# Altium schematic symbol library STC智能车.SchLib: 14 symbols
Pins are listed as number, name and electrical type; pins without a type are passive.

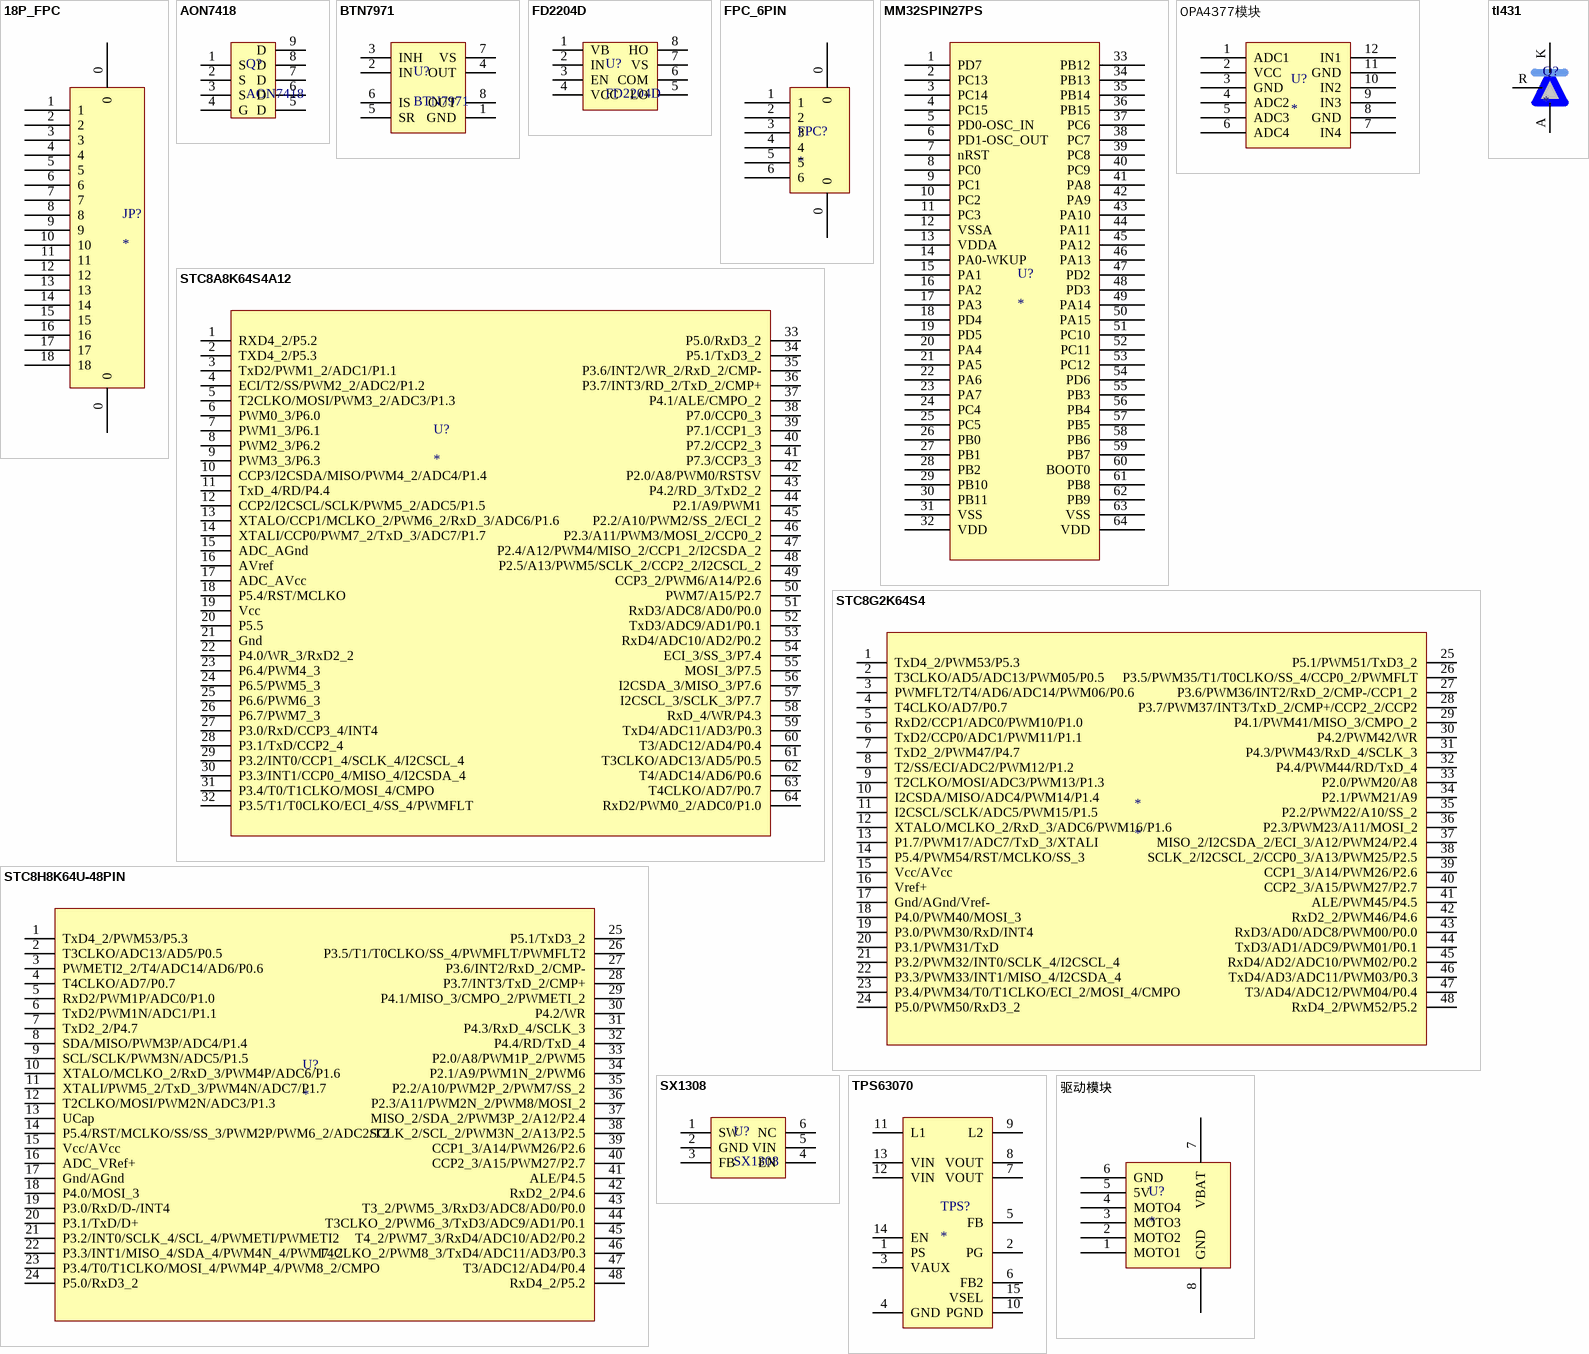
[diagram p0: symbols 18P_FPC to 驱动模块]

## 18P_FPC
designator JP?
footprint FPC0.5 2H-WS-18P (长：13.2mm，宽：5.2mm，高：2mm  淘宝ID:黄晶宝石   店铺网址:https://shop463601444.taobao.com)
pins: 0, 0, 1, 2, 3, 4, 5, 6, 7, 8, 9, 10, 11, 12, 13, 14, 15, 16, 17, 18

## AON7418
designator Q?
pins: 1 S, 2 S, 3 S, 4 G, 5 D, 6 D, 7 D, 8 D, 9 D

## BTN7971
designator U?
pins: 1 GND, 2 IN, 3 INH, 4 OUT, 5 SR, 6 IS, 7 VS, 8 OUT

## FD2204D
designator U?
pins: 1 VB, 2 IN, 3 EN, 4 VCC, 5 LO, 6 COM, 7 VS, 8 HO

## FPC_6PIN
designator FPC?
footprint FPC0.5 2H-WS-6P (长：7.2mm，宽：5.2mm，高：2mm 淘宝ID:黄晶宝石   店铺网址:https://shop463601444.taobao.com)
pins: 0, 0, 1, 2, 3, 4, 5, 6

## MM32SPIN27PS
designator U?
footprint LQFP64 10x10_M (64脚，体宽10x10mm，脚距0.5mm         淘宝ID:黄晶宝石)
pins: 1 PD7, 2 PC13, 3 PC14, 4 PC15, 5 PD0-OSC_IN, 6 PD1-OSC_OUT, 7 nRST, 8 PC0, 9 PC1, 10 PC2, 11 PC3, 12 VSSA, 13 VDDA, 14 PA0-WKUP, 15 PA1, 16 PA2, 17 PA3, 18 PD4, 19 PD5, 20 PA4, 21 PA5, 22 PA6, 23 PA7, 24 PC4, 25 PC5, 26 PB0, 27 PB1, 28 PB2, 29 PB10, 30 PB11, 31 VSS, 32 VDD, 33 PB12, 34 PB13, 35 PB14, 36 PB15, 37 PC6, 38 PC7, 39 PC8, 40 PC9, 41 PA8, 42 PA9, 43 PA10, 44 PA11, 45 PA12, 46 PA13, 47 PD2, 48 PD3, 49 PA14, 50 PA15, 51 PC10, 52 PC11, 53 PC12, 54 PD6, 55 PB3, 56 PB4, 57 PB5, 58 PB6, 59 PB7, 60 BOOT0, 61 PB8, 62 PB9, 63 VSS, 64 VDD

## OPA4377模块
designator U?
pins: 1 ADC1, 2 VCC, 3 GND, 4 ADC2, 5 ADC3, 6 ADC4, 7 IN4, 8 GND, 9 IN3, 10 IN2, 11 GND, 12 IN1

## STC8A8K64S4A12
designator U?
footprint LQFP64 10x10_M (64脚，体宽10x10mm，脚距0.5mm         淘宝ID:黄晶宝石)
pins: 1 RXD4_2/P5.2, 2 TXD4_2/P5.3, 3 TxD2/PWM1_2/ADC1/P1.1, 4 ECI/T2/SS/PWM2_2/ADC2/P1.2, 5 T2CLKO/MOSI/PWM3_2/ADC3/P1.3, 6 PWM0_3/P6.0, 7 PWM1_3/P6.1, 8 PWM2_3/P6.2, 9 PWM3_3/P6.3, 10 CCP3/I2CSDA/MISO/PWM4_2/ADC4/P1.4, 11 TxD_4/RD/P4.4, 12 CCP2/I2CSCL/SCLK/PWM5_2/ADC5/P1.5, 13 XTALO/CCP1/MCLKO_2/PWM6_2/RxD_3/ADC6/P1.6, 14 XTALI/CCP0/PWM7_2/TxD_3/ADC7/P1.7, 15 ADC_AGnd, 16 AVref, 17 ADC_AVcc, 18 P5.4/RST/MCLKO, 19 Vcc, 20 P5.5, 21 Gnd, 22 P4.0/WR_3/RxD2_2, 23 P6.4/PWM4_3, 24 P6.5/PWM5_3, 25 P6.6/PWM6_3, 26 P6.7/PWM7_3, 27 P3.0/RxD/CCP3_4/INT4, 28 P3.1/TxD/CCP2_4, 29 P3.2/INT0/CCP1_4/SCLK_4/I2CSCL_4, 30 P3.3/INT1/CCP0_4/MISO_4/I2CSDA_4, 31 P3.4/T0/T1CLKO/MOSI_4/CMPO, 32 P3.5/T1/T0CLKO/ECI_4/SS_4/PWMFLT, 33 P5.0/RxD3_2, 34 P5.1/TxD3_2, 35 P3.6/INT2/WR_2/RxD_2/CMP-, 36 P3.7/INT3/RD_2/TxD_2/CMP+, 37 P4.1/ALE/CMPO_2, 38 P7.0/CCP0_3, 39  P7.1/CCP1_3, 40 P7.2/CCP2_3, 41 P7.3/CCP3_3, 42 P2.0/A8/PWM0/RSTSV, 43  P4.2/RD_3/TxD2_2, 44  P2.1/A9/PWM1, 45 P2.2/A10/PWM2/SS_2/ECI_2, 46 P2.3/A11/PWM3/MOSI_2/CCP0_2, 47 P2.4/A12/PWM4/MISO_2/CCP1_2/I2CSDA_2, 48 P2.5/A13/PWM5/SCLK_2/CCP2_2/I2CSCL_2, 49 CCP3_2/PWM6/A14/P2.6, 50 PWM7/A15/P2.7, 51 RxD3/ADC8/AD0/P0.0, 52 TxD3/ADC9/AD1/P0.1, 53 RxD4/ADC10/AD2/P0.2, 54 ECI_3/SS_3/P7.4, 55 MOSI_3/P7.5, 56 I2CSDA_3/MISO_3/P7.6, 57 I2CSCL_3/SCLK_3/P7.7, 58 RxD_4/WR/P4.3, 59 TxD4/ADC11/AD3/P0.3, 60 T3/ADC12/AD4/P0.4, 61 T3CLKO/ADC13/AD5/P0.5, 62 T4/ADC14/AD6/P0.6, 63 T4CLKO/AD7/P0.7, 64 RxD2/PWM0_2/ADC0/P1.0

## STC8G2K64S4
designator *
pins: 1 TxD4_2/PWM53/P5.3, 2 T3CLKO/AD5/ADC13/PWM05/P0.5, 3 PWMFLT2/T4/AD6/ADC14/PWM06/P0.6, 4 T4CLKO/AD7/P0.7, 5 RxD2/CCP1/ADC0/PWM10/P1.0, 6 TxD2/CCP0/ADC1/PWM11/P1.1, 7 TxD2_2/PWM47/P4.7, 8 T2/SS/ECI/ADC2/PWM12/P1.2, 9 T2CLKO/MOSI/ADC3/PWM13/P1.3, 10 I2CSDA/MISO/ADC4/PWM14/P1.4, 11 I2CSCL/SCLK/ADC5/PWM15/P1.5 , 12 XTALO/MCLKO_2/RxD_3/ADC6/PWM16/P1.6, 13 P1.7/PWM17/ADC7/TxD_3/XTALI, 14 P5.4/PWM54/RST/MCLKO/SS_3, 15 Vcc/AVcc, 16 Vref+, 17 Gnd/AGnd/Vref-, 18 P4.0/PWM40/MOSI_3, 19 P3.0/PWM30/RxD/INT4, 20 P3.1/PWM31/TxD, 21 P3.2/PWM32/INT0/SCLK_4/I2CSCL_4, 22 P3.3/PWM33/INT1/MISO_4/I2CSDA_4, 23 P3.4/PWM34/T0/T1CLKO/ECI_2/MOSI_4/CMPO, 24 P5.0/PWM50/RxD3_2, 25 P5.1/PWM51/TxD3_2, 26 P3.5/PWM35/T1/T0CLKO/SS_4/CCP0_2/PWMFLT, 27 P3.6/PWM36/INT2/RxD_2/CMP-/CCP1_2, 28  P3.7/PWM37/INT3/TxD_2/CMP+/CCP2_2/CCP2, 29  P4.1/PWM41/MISO_3/CMPO_2, 30 P4.2/PWM42/WR, 31 P4.3/PWM43/RxD_4/SCLK_3, 32 P4.4/PWM44/RD/TxD_4, 33 P2.0/PWM20/A8, 34 P2.1/PWM21/A9, 35 P2.2/PWM22/A10/SS_2, 36  P2.3/PWM23/A11/MOSI_2, 37 MISO_2/I2CSDA_2/ECI_3/A12/PWM24/P2.4, 38 SCLK_2/I2CSCL_2/CCP0_3/A13/PWM25/P2.5, 39 CCP1_3/A14/PWM26/P2.6, 40 CCP2_3/A15/PWM27/P2.7, 41 ALE/PWM45/P4.5, 42 RxD2_2/PWM46/P4.6, 43 RxD3/AD0/ADC8/PWM00/P0.0, 44 TxD3/AD1/ADC9/PWM01/P0.1, 45 RxD4/AD2/ADC10/PWM02/P0.2, 46 TxD4/AD3/ADC11/PWM03/P0.3, 47 T3/AD4/ADC12/PWM04/P0.4, 48 RxD4_2/PWM52/P5.2

## STC8H8K64U-48PIN
designator U?
footprint LQFP48
footprint QFN48
pins: 1 TxD4_2/PWM53/P5.3, 2 T3CLKO/ADC13/AD5/P0.5, 3 PWMETI2_2/T4/ADC14/AD6/P0.6, 4 T4CLKO/AD7/P0.7, 5 RxD2/PWM1P/ADC0/P1.0, 6 TxD2/PWM1N/ADC1/P1.1, 7 TxD2_2/P4.7, 8 SDA/MISO/PWM3P/ADC4/P1.4, 9 SCL/SCLK/PWM3N/ADC5/P1.5, 10 XTALO/MCLKO_2/RxD_3/PWM4P/ADC6/P1.6, 11 XTALI/PWM5_2/TxD_3/PWM4N/ADC7/P1.7, 12 T2CLKO/MOSI/PWM2N/ADC3/P1.3, 13 UCap, 14 P5.4/RST/MCLKO/SS/SS_3/PWM2P/PWM6_2/ADC2/T2, 15 Vcc/AVcc, 16 ADC_VRef+, 17 Gnd/AGnd, 18 P4.0/MOSI_3, 19 P3.0/RxD/D-/INT4, 20 P3.1/TxD/D+, 21 P3.2/INT0/SCLK_4/SCL_4/PWMETI/PWMETI2, 22 P3.3/INT1/MISO_4/SDA_4/PWM4N_4/PWM7_2, 23 P3.4/T0/T1CLKO/MOSI_4/PWM4P_4/PWM8_2/CMPO, 24 P5.0/RxD3_2, 25 P5.1/TxD3_2, 26 P3.5/T1/T0CLKO/SS_4/PWMFLT/PWMFLT2, 27 P3.6/INT2/RxD_2/CMP-, 28 P3.7/INT3/TxD_2/CMP+, 29 P4.1/MISO_3/CMPO_2/PWMETI_2, 30 P4.2/WR, 31 P4.3/RxD_4/SCLK_3, 32 P4.4/RD/TxD_4, 33 P2.0/A8/PWM1P_2/PWM5, 34 P2.1/A9/PWM1N_2/PWM6, 35 P2.2/A10/PWM2P_2/PWM7/SS_2, 36 P2.3/A11/PWM2N_2/PWM8/MOSI_2, 37 MISO_2/SDA_2/PWM3P_2/A12/P2.4, 38 SCLK_2/SCL_2/PWM3N_2/A13/P2.5, 39 CCP1_3/A14/PWM26/P2.6, 40 CCP2_3/A15/PWM27/P2.7, 41 ALE/P4.5, 42 RxD2_2/P4.6, 43 T3_2/PWM5_3/RxD3/ADC8/AD0/P0.0, 44 T3CLKO_2/PWM6_3/TxD3/ADC9/AD1/P0.1, 45 T4_2/PWM7_3/RxD4/ADC10/AD2/P0.2, 46 T4CLKO_2/PWM8_3/TxD4/ADC11/AD3/P0.3, 47 T3/ADC12/AD4/P0.4, 48 RxD4_2/P5.2

## SX1308
designator U?
pins: 1 SW, 2 GND, 3 FB, 4 EN, 5 VIN, 6 NC

## tl431
designator Q?
pins: A, K, R

## TPS63070
designator TPS?
pins: 1 PS, 2 PG, 3 VAUX, 4 GND, 5 FB, 6 FB2, 7 VOUT, 8 VOUT, 9 L2, 10 PGND, 11 L1, 12 VIN, 13 VIN, 14 EN, 15 VSEL

## 驱动模块
designator U?
footprint 电机驱动
pins: 1 MOTO1, 2 MOTO2, 3 MOTO3, 4 MOTO4, 5 5V, 6 GND, 7 VBAT, 8 GND